# Altium footprint library 691 213 510 0xx.PcbLib: 2 footprints
Each footprint in its own frame and in the unit in brackets; x right, y up, seen from the top. Pads: shape width x height; smd on the part's side, far side on the other; paste and mask are expansions set on the pad; w line width, h text height; cw(c..) or ccw(c..) is an arc to the next point about the centre after c.
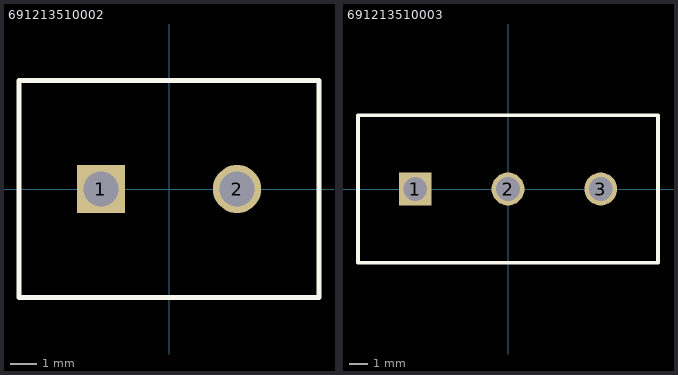
[diagram p0: the footprints below, top view; thin cyan lines are the x and y axes]

## 691213510002 [mm] "Serie 2135 - 5.08 mm _ 2 pins"
height 10
pads (2):
  rect 1.8x1.8 hole 1.3: 1(-2.54,0)
  round 1.8 hole 1.3: 2(2.54,0)
Top Overlay:
  lines w0.2: -5.6,-4.05 5.6,-4.05 5.6,4.05 -5.6,4.05 -5.6,-4.05
3D body: height 10.1, standoff -3.4, extent -5.68,-4 5.68,4.1

## 691213510003 [mm] "Serie 2135 - 5.08 mm _ 3 pins"
height 10
pads (3):
  rect 1.8x1.8 hole 1.3: 1(-5.08,0)
  round 1.8 hole 1.3: 2(0,0) 3(5.08,0)
Top Overlay:
  lines w0.2: -8.22,-4.05 8.22,-4.05 8.22,4.05 -8.22,4.05 -8.22,-4.05
3D body: height 10.1, standoff -3.4, extent -8.22,-4 8.22,4.1